# EAGLE library part PIC16F18325-I/P (library BloodMonLib)
Dual In Line / Socket
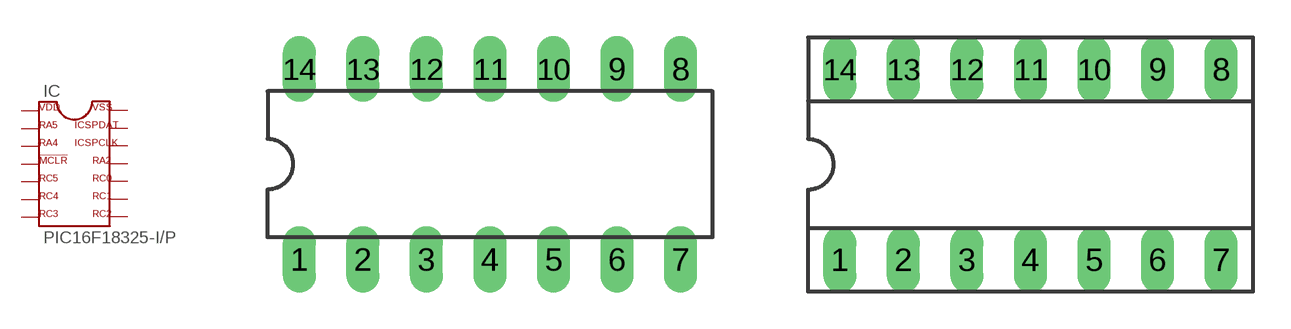
[diagram p0: symbol with the pads of DIL14; footprints DIL14, SOCKET-14]

Designator prefix IC

## PIC16F18325-I/P  [DIL14]
1  VDD  pas
2  RA5  pas
3  RA4  pas
4  VPP/!MCLR/RA3  pas
5  RC5  pas
6  RC4  pas
7  RC3  pas
8  RC2  pas
9  RC1  pas
10  RC0  pas
11  RA2  pas
12  RA1/ICSPCLK  pas
13  RA0/ICSPDAT  pas
14  VSS  pas

## PIC16F18325-I/PS  [SOCKET-14]
Pads as for DIL14

## Footprint DIL14 (pad centres in mm)
Dual In Line Package
drill 0.813 long: 1 -7.62,-3.81; 2 -5.08,-3.81; 3 -2.54,-3.81; 4 0,-3.81; 5 2.54,-3.81; 6 5.08,-3.81; 7 7.62,-3.81; 8 7.62,3.81; 9 5.08,3.81; 10 2.54,3.81; 11 0,3.81; 12 -2.54,3.81; 13 -5.08,3.81; 14 -7.62,3.81

## Footprint SOCKET-14 (pad centres in mm)
Dual In Line Socket
drill 0.813 long: 1 -7.62,-3.81; 2 -5.08,-3.81; 3 -2.54,-3.81; 4 0,-3.81; 5 2.54,-3.81; 6 5.08,-3.81; 7 7.62,-3.81; 8 7.62,3.81; 9 5.08,3.81; 10 2.54,3.81; 11 0,3.81; 12 -2.54,3.81; 13 -5.08,3.81; 14 -7.62,3.81